# Altium footprint library LCboardPCB.PcbLib: 11 footprints
Each footprint in its own frame and in the unit in brackets; x right, y up, seen from the top. Pads: shape width x height; smd on the part's side, far side on the other; paste and mask are expansions set on the pad; w line width, h text height; cw(c..) or ccw(c..) is an arc to the next point about the centre after c.
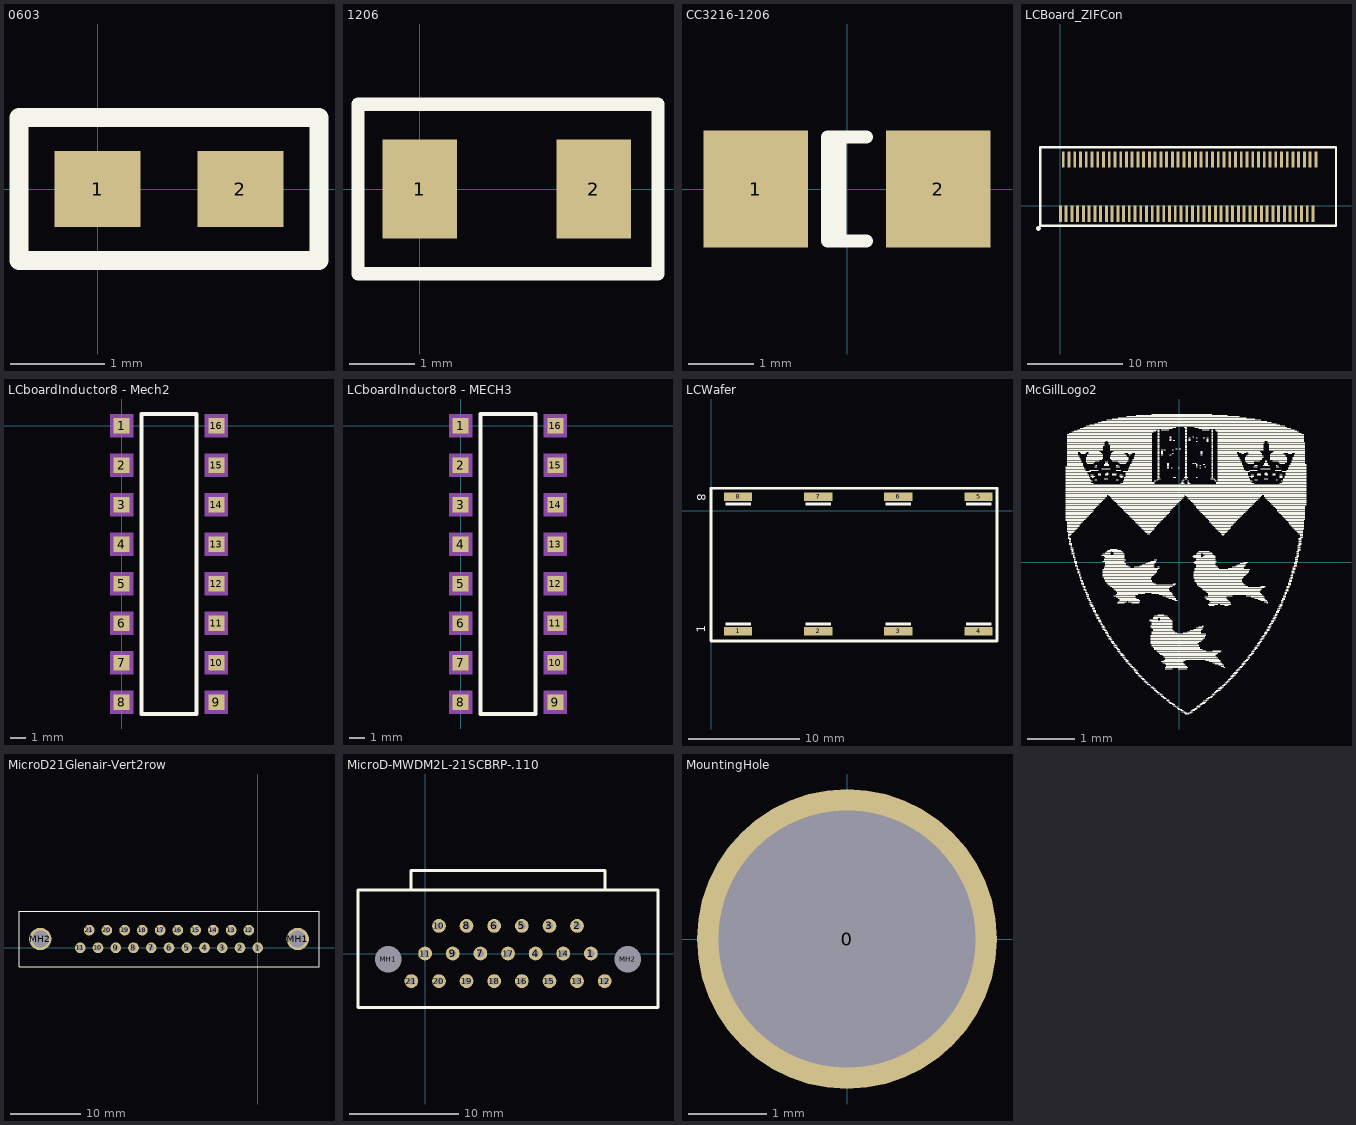
[diagram p0: the footprints below, top view; thin cyan lines are the x and y axes]

## 0603 [mil]
pads (2):
  rect 36x32 smd: 1(0,0) 2(60,0)
Top Overlay:
  lines w8: -33,-30 -33,30 93,30 93,-30 -33,-30

## 1206 [mil]
pads (2):
  rect 45x60 smd: 1(0,0) 2(105,0)
Top Overlay:
  lines w8: -37.4,-51.18 143.7,-51.18 143.7,51.18 -37.4,51.18 -37.4,-51.18

## CC3216-1206 [mm]
pads (2):
  rect 1.6x1.8 smd: 1(-1.4,0) 2(1.4,0)
Top Overlay:
  lines w0.2: -0.11,-0.8 -0.11,0.8 ; 0.3,-0.8 -0.3,-0.8 -0.3,0.8 0.3,0.8

## LCBoard_ZIFCon [mm]
pads (91):
  rect 0.3x1.7 smd: 1(0,-0.85) 2(0.3,4.8) 3(0.6,-0.85) 4(0.9,4.8) 5(1.2,-0.85) 6(1.5,4.8) 7(1.8,-0.85) 8(2.1,4.8) 9(2.4,-0.85) 10(2.7,4.8) 11(3,-0.85) 12(3.3,4.8) 13(3.6,-0.85) 14(3.9,4.8) 15(4.2,-0.85) 16(4.5,4.8) 17(4.8,-0.85) 18(5.1,4.8) 19(5.4,-0.85) 20(5.7,4.8) 21(6,-0.85) 22(6.3,4.8) 23(6.6,-0.85) 24(6.9,4.8) 25(7.2,-0.85) 26(7.5,4.8) 27(7.8,-0.85) 28(8.1,4.8) 29(8.4,-0.85) 30(8.7,4.8) 31(9,-0.85) 32(9.3,4.8) 33(9.6,-0.85) 34(9.9,4.8) 35(10.2,-0.85) 36(10.5,4.8) 37(10.8,-0.85) 38(11.1,4.8) 39(11.4,-0.85) 40(11.7,4.8) 41(12,-0.85) 42(12.3,4.8) 43(12.6,-0.85) 44(12.9,4.8) 45(13.2,-0.85) 46(13.5,4.8) 47(13.8,-0.85) 48(14.1,4.8) 49(14.4,-0.85) 50(14.7,4.8) 51(15,-0.85) 52(15.3,4.8) 53(15.6,-0.85) 54(15.9,4.8) 55(16.2,-0.85) 56(16.5,4.8) 57(16.8,-0.85) 58(17.1,4.8) 59(17.4,-0.85) 60(17.7,4.8) 61(18,-0.85) 62(18.3,4.8) 63(18.6,-0.85) 64(18.9,4.8) 65(19.2,-0.85) 66(19.5,4.8) 67(19.8,-0.85) 68(20.1,4.8) 69(20.4,-0.85) 70(20.7,4.8) 71(21,-0.85) 72(21.3,4.8) 73(21.6,-0.85) 74(21.9,4.8) 75(22.2,-0.85) 76(22.5,4.8) 77(22.8,-0.85) 78(23.1,4.8) 79(23.4,-0.85) 80(23.7,4.8) 81(24,-0.85) 82(24.3,4.8) 83(24.6,-0.85) 84(24.9,4.8) 85(25.2,-0.85) 86(25.5,4.8) 87(25.8,-0.85) 88(26.1,4.8) 89(26.4,-0.85) 90(26.7,4.8)
  round 0.5 on Top Overlay: 2(-2.3,-2.4)
Top Overlay:
  lines w0.254: -2.1,-2.1 28.8,-2.1 28.8,6.1 -2.1,6.1 -2.1,-2.1

## LCboardInductor8 - Mech2 [mil]
pads (16):
  rect 40x40 smd: 1(0,0) 2(0,-100) 3(0,-200) 4(0,-300) 5(0,-400) 6(0,-500) 7(0,-600) 8(0,-700) 9(240,-700) 10(240,-600) 11(240,-500) 12(240,-400) 13(240,-300) 14(240,-200) 15(240,-100) 16(240,0)
Top Overlay:
  lines w10: 50,-730 50,30 190,30 190,-730 50,-730
Mechanical 2:
  rectangle: 210,-30 270,30
  rectangle: 210,-130 270,-70
  rectangle: 210,-230 270,-170
  rectangle: 210,-330 270,-270
  rectangle: 210,-430 270,-370
  rectangle: 210,-530 270,-470
  rectangle: 210,-630 270,-570
  rectangle: 210,-730 270,-670
  rectangle: -30,-730 30,-670
  rectangle: -30,-630 30,-570
  rectangle: -30,-530 30,-470
  rectangle: -30,-430 30,-370
  rectangle: -30,-330 30,-270
  rectangle: -30,-230 30,-170
  rectangle: -30,-130 30,-70
  rectangle: -30,-30 30,30

## LCboardInductor8 - MECH3 [mil]
pads (16):
  rect 40x40 smd: 1(0,0) 2(0,-100) 3(0,-200) 4(0,-300) 5(0,-400) 6(0,-500) 7(0,-600) 8(0,-700) 9(240,-700) 10(240,-600) 11(240,-500) 12(240,-400) 13(240,-300) 14(240,-200) 15(240,-100) 16(240,0)
Top Overlay:
  lines w10: 50,-730 50,30 190,30 190,-730 50,-730
Mechanical 3:
  rectangle: 210,-30 270,30
  rectangle: 210,-130 270,-70
  rectangle: 210,-230 270,-170
  rectangle: 210,-330 270,-270
  rectangle: 210,-430 270,-370
  rectangle: 210,-530 270,-470
  rectangle: 210,-630 270,-570
  rectangle: 210,-730 270,-670
  rectangle: -30,-430 30,-370
  rectangle: -30,-530 30,-470
  rectangle: -30,-630 30,-570
  rectangle: -30,-730 30,-670
  rectangle: -30,-330 30,-270
  rectangle: -30,-230 30,-170
  rectangle: -30,-130 30,-70
  rectangle: -30,-30 30,30

## LCWafer [mil]
pads (8):
  rect 100x30 smd paste-500 mask-500: 1(95,-425) 2(378.3,-425) 3(661.6,-425) 4(944.9,-425) 5(944.9,50) 6(661.6,50) 7(378.3,50) 8(95,50)
Top Overlay:
  region: 989.9,-395 899.9,-395 899.9,-405 989.9,-405
  region: 706.6,-395 616.6,-395 616.6,-405 706.6,-405
  region: 423.3,-395 333.3,-395 333.3,-405 423.3,-405
  region: 140,-395 50,-395 50,-405 140,-405
  rectangle: 899.9,20 989.9,30
  rectangle: 616.6,20 706.6,30
  rectangle: 333.3,20 423.3,30
  rectangle: 50,20 140,30
  lines w10: 0,-460 0,-440 0,80 1010,80 1010,-460 0,-460
  text "8" at -50,60 h30
  text "1" at -20,-430 h30

## McGillLogo2 [mm] "McGillLogo"
Top Overlay:
  drawing of 1109 lines, arcs and shapes, not listed

## MicroD21Glenair-Vert2row [mil]
pads (23):
  round 60 hole 30: 1(0,0) 2(-100,0) 3(-200,0) 4(-300,0) 5(-400,0) 6(-500,0) 7(-600,0) 8(-700,0) 9(-800,0) 10(-900,0) 11(-1000,0) 12(-50,100) 13(-150,100) 14(-250,100) 15(-350,100) 16(-450,100) 17(-550,100) 18(-650,100) 19(-750,100) 20(-850,100) 21(-950,100)
  round 125.98 hole 96.06: MH1(225,50) MH2(-1225,50)
Top Overlay:
  lines w3.94: -1345,-105 345,-105 345,205 -1345,205 -1345,-105

## MicroD-MWDM2L-21SCBRP-.110 [mil]
pads (23):
  round 50 hole 25: 1(600,0) 2(550,100) 3(450,100) 4(400,0) 5(350,100) 6(250,100) 7(200,0) 8(150,100) 9(100,0) 10(50,100) 11(0,0) 12(650,-100) 13(550,-100) 14(500,0) 15(450,-100) 16(350,-100) 17(300,0) 18(250,-100) 19(150,-100) 20(50,-100) 21(-50,-100)
  round 60 hole 96: MH1(-133,-20) MH2(733,-20)
Top Overlay:
  lines w10: -51,231 -51,300 651,300 651,231 ; -243,-195 -243,230 843,230 843,-195 -243,-195

## MountingHole [mil]
pads (1):
  round 150 hole 128.5: 0(0,0)